# Altium schematic symbol library TXB0108YZPR.Schlib: 1 symbol
Pins are listed as number, name and electrical type; pins without a type are passive.

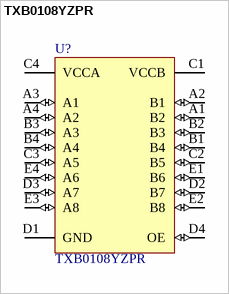
[diagram p0: symbol TXB0108YZPR]

## TXB0108YZPR
designator U?
Voltage Level Translator Bidirectional 1 Circuit 8 Channel 100Mbps 20-DSBGA
pins: A1 B2 (io), A2 B1 (io), A3 A1 (io), A4 A2 (io), B1 B4 (io), B2 B3 (io), B3 A3 (io), B4 A4 (io), C1 VCCB (power), C2 B5 (io), C3 A5 (io), C4 VCCA (power), D1 GND (power), D2 B7 (io), D3 A7 (io), D4 OE (io), E1 B6 (io), E2 B8 (io), E3 A8 (io), E4 A6 (io)